# EAGLE library part TPS7A4901 (library FHD-POWER)
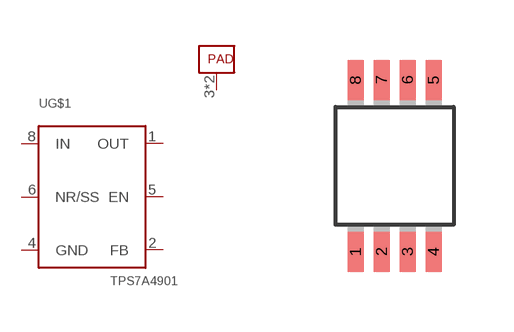
[diagram p4: symbol with the pads of HTSSOP8DGN; footprint HTSSOP8DGN]

Designator prefix -; gates G$1=TPS7A49 G$2=TPA6120A2-PAD

## TPS7A4901  [HTSSOP8DGN]
1  G$1:OUT
2  G$1:FB
3  G$2:PAD  nc
4  G$1:GND
5  G$1:EN
6  G$1:NR/SS
7  G$2:PAD  nc
8  G$1:IN

## Footprint HTSSOP8DGN (pad centres in mm)
PowerPAD(TM) PLASTIC SMALL-OUTLINE PACKAGE DGN (R-PDSO-G8) Source: http://focus.ti.com/lit/ml/mpds046b/mpds046b.pdf
smd 0.4 x 1: 1 -0.975,-2.15; 2 -0.325,-2.15; 3 0.325,-2.15; 4 0.975,-2.15; 5 0.975,2.15; 6 0.325,2.15; 7 -0.325,2.15; 8 -0.975,2.15